# Altium footprint library PcbLib.PcbLib: 18 footprints (part 2 of 2)
Each footprint in its own frame and in the unit in brackets; x right, y up, seen from the top. Pads: shape width x height; smd on the part's side, far side on the other; paste and mask are expansions set on the pad; w line width, h text height; cw(c..) or ccw(c..) is an arc to the next point about the centre after c.
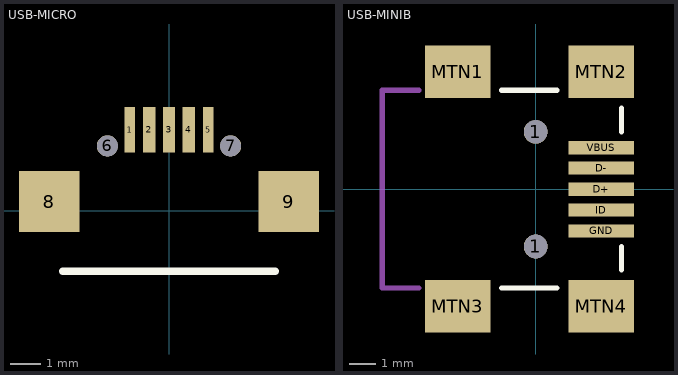
[diagram p1: the footprints below, top view; thin cyan lines are the x and y axes]

## USB-MICRO [mm]
pads (9):
  rect 0.35x1.5 smd: 1(-1.3,2.675) 5(1.3,2.675)
  rect 0.4x1.5 smd: 2(-0.65,2.675) 3(0,2.675) 4(0.65,2.675)
  round 0.7 hole 0.7 unplated: 6(-2.032,2.134) 7(2.032,2.134)
  rect 2x2 smd: 8(-3.95,0.3) 9(3.95,0.3)
Top Overlay:
  lines w0.254: -3.5,-2 3.5,-2

## USB-MINIB [mil] "USB-MINIB"
pads (11):
  round 36 hole 36: 1(0,-86.61) 1(0,87)
  rect 99x20 smd: D+(99,0) D-(99,32) GND(99,-62.99) ID(99,-31.5) VBUS(99,63)
  rect 99x79 smd: MTN1(-118.11,178) MTN2(99,178) MTN3(-118.11,-177.17) MTN4(99,-177.17)
Top Overlay:
  lines w8: -51.18,-149.61 32,-149.61 ; -51.18,150 32,150 ; 130,-122.05 130,-86.61 ; 130,87 130,123
Mechanical 16:
  lines w8: -177.17,-149.61 -232.28,-149.61 -232.28,150 -177.17,150